# EAGLE library part USBPORT (library ENGI301)
USB(2.0) Type-A, RCPT, 4POS, THT-VERT Datasheet <https://www.te.com/commerce/DocumentDelivery/DDEController?Action=showdoc&DocId=Data+Sheet%7F7-1773442-0%7F0306%7Fpdf%7FEnglish%7FENG_DS_7-1773442-0_0306.pdf%7F1734366-1> Drawing <https://www.te.com/commerce/DocumentDelivery/DDEController?Action=srchrtrv&DocNm=1734366&DocType=Customer+Drawing&DocLang=English>
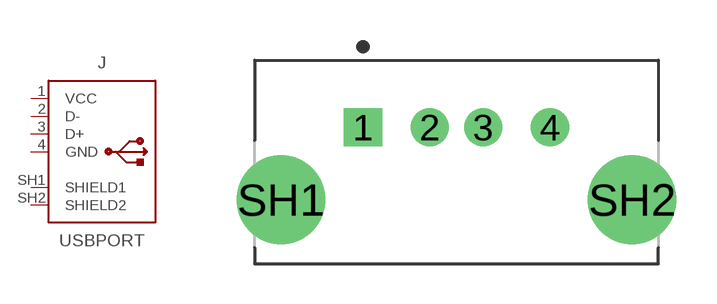
[diagram p1: symbol with the pads of 1734366; footprint 1734366]

Designator prefix J

## USBPORT (CATEGORY: Connector; CONTACTS: 4; CURRENT_RATING: 1A; DESCRIPTION: CONN RCPT USB2.0 TYPEA 4POS VERT; GENDER: Receptacle; MANUFACTURER: TE Connectivity; MOUNT_TYPE: Vertical; MPN: 1734366-1; OPERATING_TEMP: -40° to +80°C; PART_STATUS: Active; ROHS_COMPLIANT: RoHS Compliant; SERIES: -; SUB-CATEGORY: USB; TYPE: USB-A; VOLTAGE_RATING: 30VAC(rms))  [1734366]
1  VCC  pwr
2  D-
3  D+
4  GND  pwr
SH1  SHIELD1  sup
SH2  SHIELD2  sup

## Footprint 1734366 (pad centres in mm)
drill 0.92 square: 1 0,0
drill 0.92: 2 2.5,0; 3 4.5,0; 4 7,0
drill 2.3: SH1 -3.07,-2.71; SH2 10.07,-2.71